# EAGLE library part MSP430F2003 (library TexasInstruments)
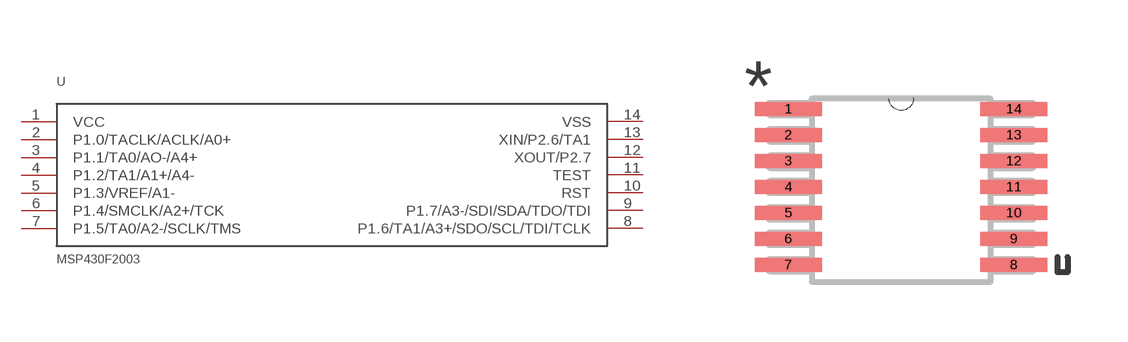
[diagram p7: symbol with the pads of PW14; footprint PW14]

Designator prefix -

## MSP430F2003  [PW14]
1  VCC
2  P1.0/TACLK/ACLK/A0+
3  P1.1/TA0/AO-/A4+
4  P1.2/TA1/A1+/A4-
5  P1.3/VREF/A1-
6  P1.4/SMCLK/A2+/TCK
7  P1.5/TA0/A2-/SCLK/TMS
8  P1.6/TA1/A3+/SDO/SCL/TDI/TCLK
9  P1.7/A3-/SDI/SDA/TDO/TDI
10  RST
11  TEST
12  XOUT/P2.7
13  XIN/P2.6/TA1
14  VSS

## Footprint PW14 (pad centres in mm)
smd 1.676 x 0.356: 1 -2.819,2.286; 2 -2.819,1.636; 3 -2.819,0.986; 4 -2.819,0.336; 5 -2.819,-0.314; 6 -2.819,-0.964; 7 -2.819,-1.614; 8 2.819,-1.614; 9 2.819,-0.964; 10 2.819,-0.314; 11 2.819,0.336; 12 2.819,0.986; 13 2.819,1.636; 14 2.819,2.286